# EAGLE library part DSA-DUMMY-CONNECTOR-V1 (library DSA-dummy-connector)
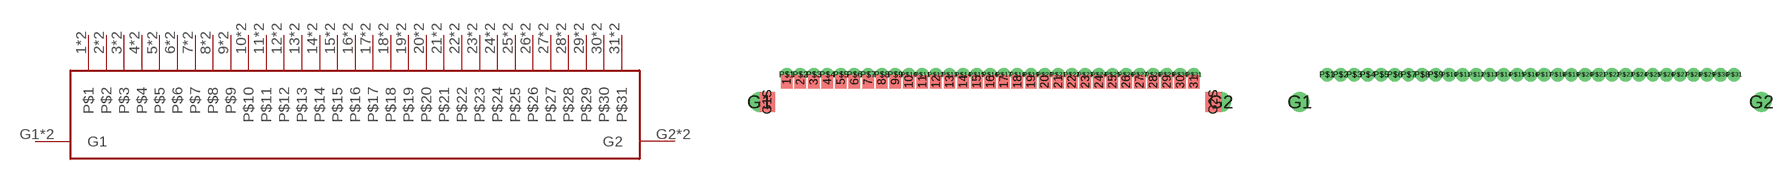
[diagram p0: symbol with the pads of DSA-DUMMY; footprints DSA-DUMMY, DSA-DUMMY-2]

Designator prefix -

## DSA-DUMMY-CONNECTOR-V11  [DSA-DUMMY]
1  P$1
2  P$2
3  P$3
4  P$4
5  P$5
6  P$6
7  P$7
8  P$8
9  P$9
10  P$10
11  P$11
12  P$12
13  P$13
14  P$14
15  P$15
16  P$16
17  P$17
18  P$18
19  P$19
20  P$20
21  P$21
22  P$22
23  P$23
24  P$24
25  P$25
26  P$26
27  P$27
28  P$28
29  P$29
30  P$30
31  P$31
G1  G1
G1S  G1
G2  G2
G2S  G2
P$1  P$1
P$2  P$2
P$3  P$3
P$4  P$4
P$5  P$5
P$6  P$6
P$7  P$7
P$8  P$8
P$9  P$9
P$10  P$10
P$11  P$11
P$12  P$12
P$13  P$13
P$14  P$14
P$15  P$15
P$16  P$16
P$17  P$17
P$18  P$18
P$19  P$19
P$20  P$20
P$21  P$21
P$22  P$22
P$23  P$23
P$24  P$24
P$25  P$25
P$26  P$26
P$27  P$27
P$28  P$28
P$29  P$29
P$30  P$30
P$31  P$31

## DSA-DUMMY-CONNECTOR-V12  [DSA-DUMMY-2]
G1  G1
G2  G2
P$1  P$1
P$2  P$2
P$3  P$3
P$4  P$4
P$5  P$5
P$6  P$6
P$7  P$7
P$8  P$8
P$9  P$9
P$10  P$10
P$11  P$11
P$12  P$12
P$13  P$13
P$14  P$14
P$15  P$15
P$16  P$16
P$17  P$17
P$18  P$18
P$19  P$19
P$20  P$20
P$21  P$21
P$22  P$22
P$23  P$23
P$24  P$24
P$25  P$25
P$26  P$26
P$27  P$27
P$28  P$28
P$29  P$29
P$30  P$30
P$31  P$31

## Footprint DSA-DUMMY (pad centres in mm)
smd 0.889 x 1.054: 1 2.108,1.581; 2 3.162,1.581; 3 4.216,1.581; 4 5.271,1.581; 5 6.325,1.581; 6 7.379,1.581; 7 8.433,1.581; 8 9.487,1.581; 9 10.541,1.581; 10 11.595,1.581; 11 12.649,1.581; 12 13.703,1.581; 13 14.757,1.581; 14 15.812,1.581; 15 16.866,1.581; 16 17.92,1.581; 17 18.974,1.581; 18 20.028,1.581; 19 21.082,1.581; 20 22.136,1.581; 21 23.19,1.581; 22 24.244,1.581; 23 25.298,1.581; 24 26.352,1.581; 25 27.407,1.581; 26 28.461,1.581; 27 29.515,1.581; 28 30.569,1.581; 29 31.623,1.581; 30 32.677,1.581; 31 33.731,1.581
drill 1.016 pad 1.372: G1 0,0; G2 35.839,0
smd 1.206 x 1.524: G1S 0.603,0; G2S 35.236,0
drill 0.533 pad 0.889: P$1 2.108,2.108; P$2 3.162,2.108; P$3 4.216,2.108; P$4 5.271,2.108; P$5 6.325,2.108; P$6 7.379,2.108; P$7 8.433,2.108; P$8 9.487,2.108; P$9 10.541,2.108; P$10 11.595,2.108; P$11 12.649,2.108; P$12 13.703,2.108; P$13 14.757,2.108; P$14 15.812,2.108; P$15 16.866,2.108; P$16 17.92,2.108; P$17 18.974,2.108; P$18 20.028,2.108; P$19 21.082,2.108; P$20 22.136,2.108; P$21 23.19,2.108; P$22 24.244,2.108; P$23 25.298,2.108; P$24 26.352,2.108; P$25 27.407,2.108; P$26 28.461,2.108; P$27 29.515,2.108; P$28 30.569,2.108; P$29 31.623,2.108; P$30 32.677,2.108; P$31 33.731,2.108

## Footprint DSA-DUMMY-2 (pad centres in mm)
drill 1.016 pad 1.372: G1 0,0; G2 35.839,0
drill 0.533 pad 0.889: P$1 2.108,2.108; P$2 3.162,2.108; P$3 4.216,2.108; P$4 5.271,2.108; P$5 6.325,2.108; P$6 7.379,2.108; P$7 8.433,2.108; P$8 9.487,2.108; P$9 10.541,2.108; P$10 11.595,2.108; P$11 12.649,2.108; P$12 13.703,2.108; P$13 14.757,2.108; P$14 15.812,2.108; P$15 16.866,2.108; P$16 17.92,2.108; P$17 18.974,2.108; P$18 20.028,2.108; P$19 21.082,2.108; P$20 22.136,2.108; P$21 23.19,2.108; P$22 24.244,2.108; P$23 25.298,2.108; P$24 26.352,2.108; P$25 27.407,2.108; P$26 28.461,2.108; P$27 29.515,2.108; P$28 30.569,2.108; P$29 31.623,2.108; P$30 32.677,2.108; P$31 33.731,2.108